# Altium schematic symbol library USB2412.SchLib: 1 symbol
Pins are listed as number, name and electrical type; pins without a type are passive.

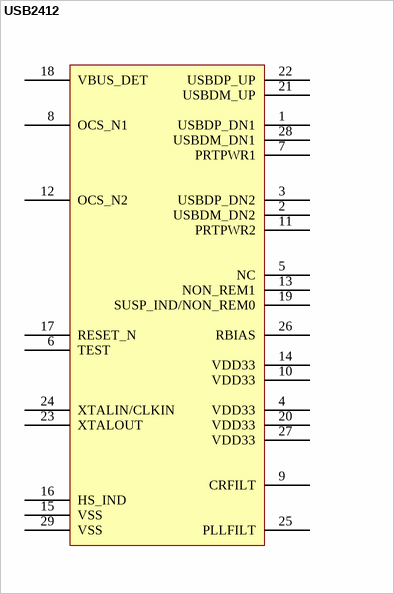
[diagram p0: symbol USB2412]

## USB2412
designator U?
footprint SLAB-QFN-28-3125x3125TP_N (QFN, 28-Leads, Body 5x5mm, Pitch 0.5mm, Thermal Pad 3.13x3.13mm, IPC Medium Density)
pins: 1 USBDP_DN1, 2 USBDM_DN2, 3 USBDP_DN2, 4 VDD33, 5 NC, 6 TEST, 7 PRTPWR1, 8 OCS_N1, 9 CRFILT, 10 VDD33, 11 PRTPWR2, 12 OCS_N2, 13 NON_REM1, 14 VDD33, 15 VSS, 16 HS_IND, 17 RESET_N, 18 VBUS_DET, 19 SUSP_IND/NON_REM0, 20 VDD33, 21 USBDM_UP, 22 USBDP_UP, 23 XTALOUT, 24 XTALIN/CLKIN, 25 PLLFILT, 26 RBIAS, 27 VDD33, 28 USBDM_DN1, 29 VSS